# Altium schematic symbol library Crystal, Two Gnd Pins.SchLib: 1 symbol
Pins are listed as number, name and electrical type; pins without a type are passive.

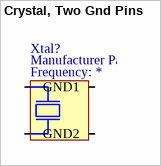
[diagram p0: symbol Crystal, Two Gnd Pins]

## Crystal, Two Gnd Pins
designator Xtal?
Component Category: Crystal; ComponentLink1Description: Datasheet; ComponentLink1URL: *; ComponentLink2Description: Supplier Link; ComponentLink2URL: *; Supplier: *; Supplier Part Number: *; Operating Temperature, Min: -*℃; Operating Temperature, Max: +*℃; Quantity, Min: *; Quantity, Max: *; Price, Min: *; Supplier Currency: *; Price, Max: *; Supplier Link: *; Component Type: Crystal; Manufacturer: *; Package: *; Frequency: *; Manufacturer Part Number: *
footprint Kyocera, CX3225SB
pins: 1, 2, GND1, GND2